# EAGLE library part WM8524 (library Oles komponentbibliotek)
24-bit 192kHz stereo DAC with 2Vrms ground referenced line output. LJ, RJ, and I2S interface.
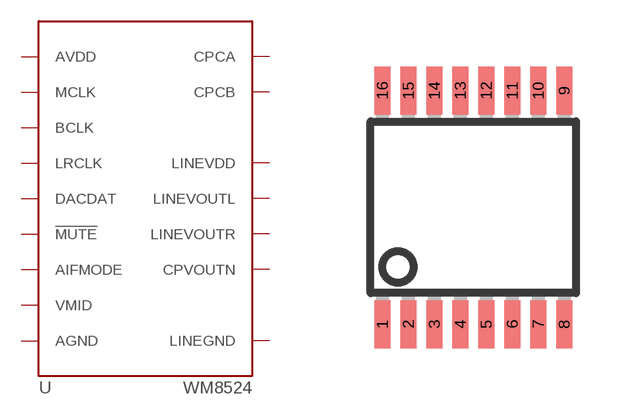
[diagram p47: symbol with the pads of SSOP16; footprint SSOP16]

Designator prefix -

## WM8524  [SSOP16]
1  LINEVOUTL  out
2  CPVOUTN  pwr
3  CPCB  pas
4  LINEGND  pwr
5  CPCA  pas
6  LINEVDD  pwr
7  DACDAT  in
8  LRCLK  in
9  BCLK  in
10  MCLK  in
11  !MUTE  in
12  AIFMODE  in
13  AGND  pwr
14  VMID  pwr
15  AVDD  pwr
16  LINEVOUTR  out

## Footprint SSOP16 (pad centres in mm)
Small Shrink Outline Package
smd 0.4 x 1.2: 1 -2.275,-2.925; 2 -1.625,-2.925; 3 -0.975,-2.925; 4 -0.325,-2.925; 5 0.325,-2.925; 6 0.975,-2.925; 7 1.625,-2.925; 8 2.275,-2.925; 9 2.275,2.925; 10 1.625,2.925; 11 0.975,2.925; 12 0.325,2.925; 13 -0.325,2.925; 14 -0.975,2.925; 15 -1.625,2.925; 16 -2.275,2.925